# EAGLE library part WIZ820IO_DEVICE (library Wiz820io)
WIZnet, WIZ820io plug in module incl. W5200 chip and MagJack
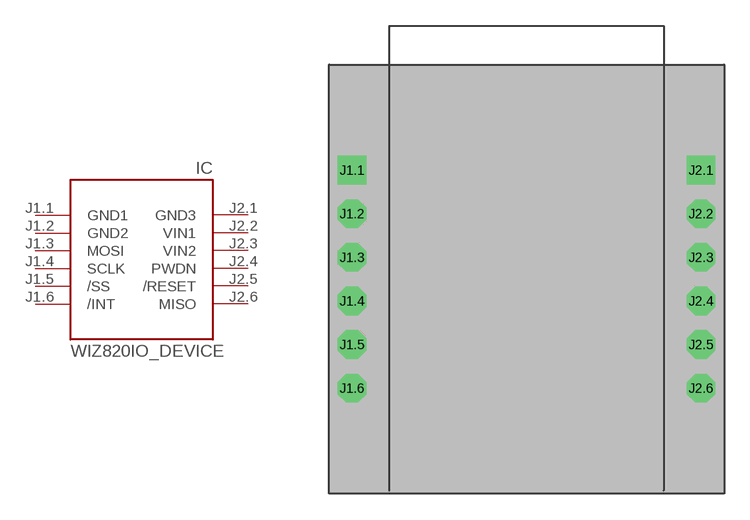
[diagram p0: symbol with the pads of WIZ820IO; footprint WIZ820IO]

Designator prefix IC

## WIZ820IO_DEVICE'DUAL-IN-LINE'  [WIZ820IO]
J1.1  GND1  pwr
J1.2  GND2  pwr
J1.3  MOSI  in
J1.4  SCLK  in
J1.5  /SS  in
J1.6  /INT  out
J2.1  GND3  pwr
J2.2  VIN1  pwr
J2.3  VIN2  pwr
J2.4  PWDN  in
J2.5  /RESET  in
J2.6  MISO  out

## Footprint WIZ820IO (pad centres in mm)
WIZnet, WIZ820io plug in module incl. W5200 chip and MagJack
drill 0.9 pad 1.676 square: J1.1 -10.16,6.35; J2.1 10.16,6.35
drill 0.9 pad 1.676 octagon: J1.2 -10.16,3.81; J1.3 -10.16,1.27; J1.4 -10.16,-1.27; J1.5 -10.16,-3.81; J1.6 -10.16,-6.35; J2.2 10.16,3.81; J2.3 10.16,1.27; J2.4 10.16,-1.27; J2.5 10.16,-3.81; J2.6 10.16,-6.35